# EAGLE library part TPS2105D (library SamacSys_Parts)
2.7-5.5V Dual In/Single Out MOSFET, 0.5A Main/0.1A Aux Input, Act-High Enable, Industrial Temp. Source: Datasheet <http://www.ti.com/lit/gpn/tps2105>
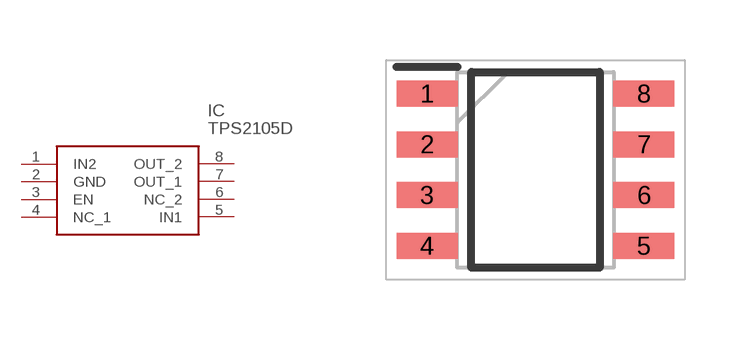
[diagram p141: symbol with the pads of SOIC127P600X175-8N; footprint SOIC127P600X175-8N]

Designator prefix IC

## TPS2105D (DESCRIPTION: 2.7-5.5V Dual In/Single Out MOSFET, 0.5A Main/0.1A Aux Input, Act-High Enable, Industrial Temp.; HEIGHT: 1.75mm; MANUFACTURER_NAME: Texas Instruments; MANUFACTURER_PART_NUMBER: TPS2105D; MOUSER_PART_NUMBER: 595-TPS2105D; MOUSER_PRICE-STOCK: https://www.mouser.co.uk/ProductDetail/Texas-Instruments/TPS2105D/?qs=ojKcPFmCWSV9uyH7mc6byg%3D%3D)  [SOIC127P600X175-8N]
1  IN2
2  GND
3  EN
4  NC_1
5  IN1
6  NC_2
7  OUT_1
8  OUT_2

## Footprint SOIC127P600X175-8N (pad centres in mm)
SO8N 8-lead plastic small outline, 150 mils body width
smd 1.525 x 0.65: 1 -2.712,1.905; 2 -2.712,0.635; 3 -2.712,-0.635; 4 -2.712,-1.905; 5 2.712,-1.905; 6 2.712,-0.635; 7 2.712,0.635; 8 2.712,1.905